# Altium footprint library resistors.pcblib: 14 footprints
Each footprint in its own frame and in the unit in brackets; x right, y up, seen from the top. Pads: shape width x height; smd on the part's side, far side on the other; paste and mask are expansions set on the pad; w line width, h text height; cw(c..) or ccw(c..) is an arc to the next point about the centre after c.
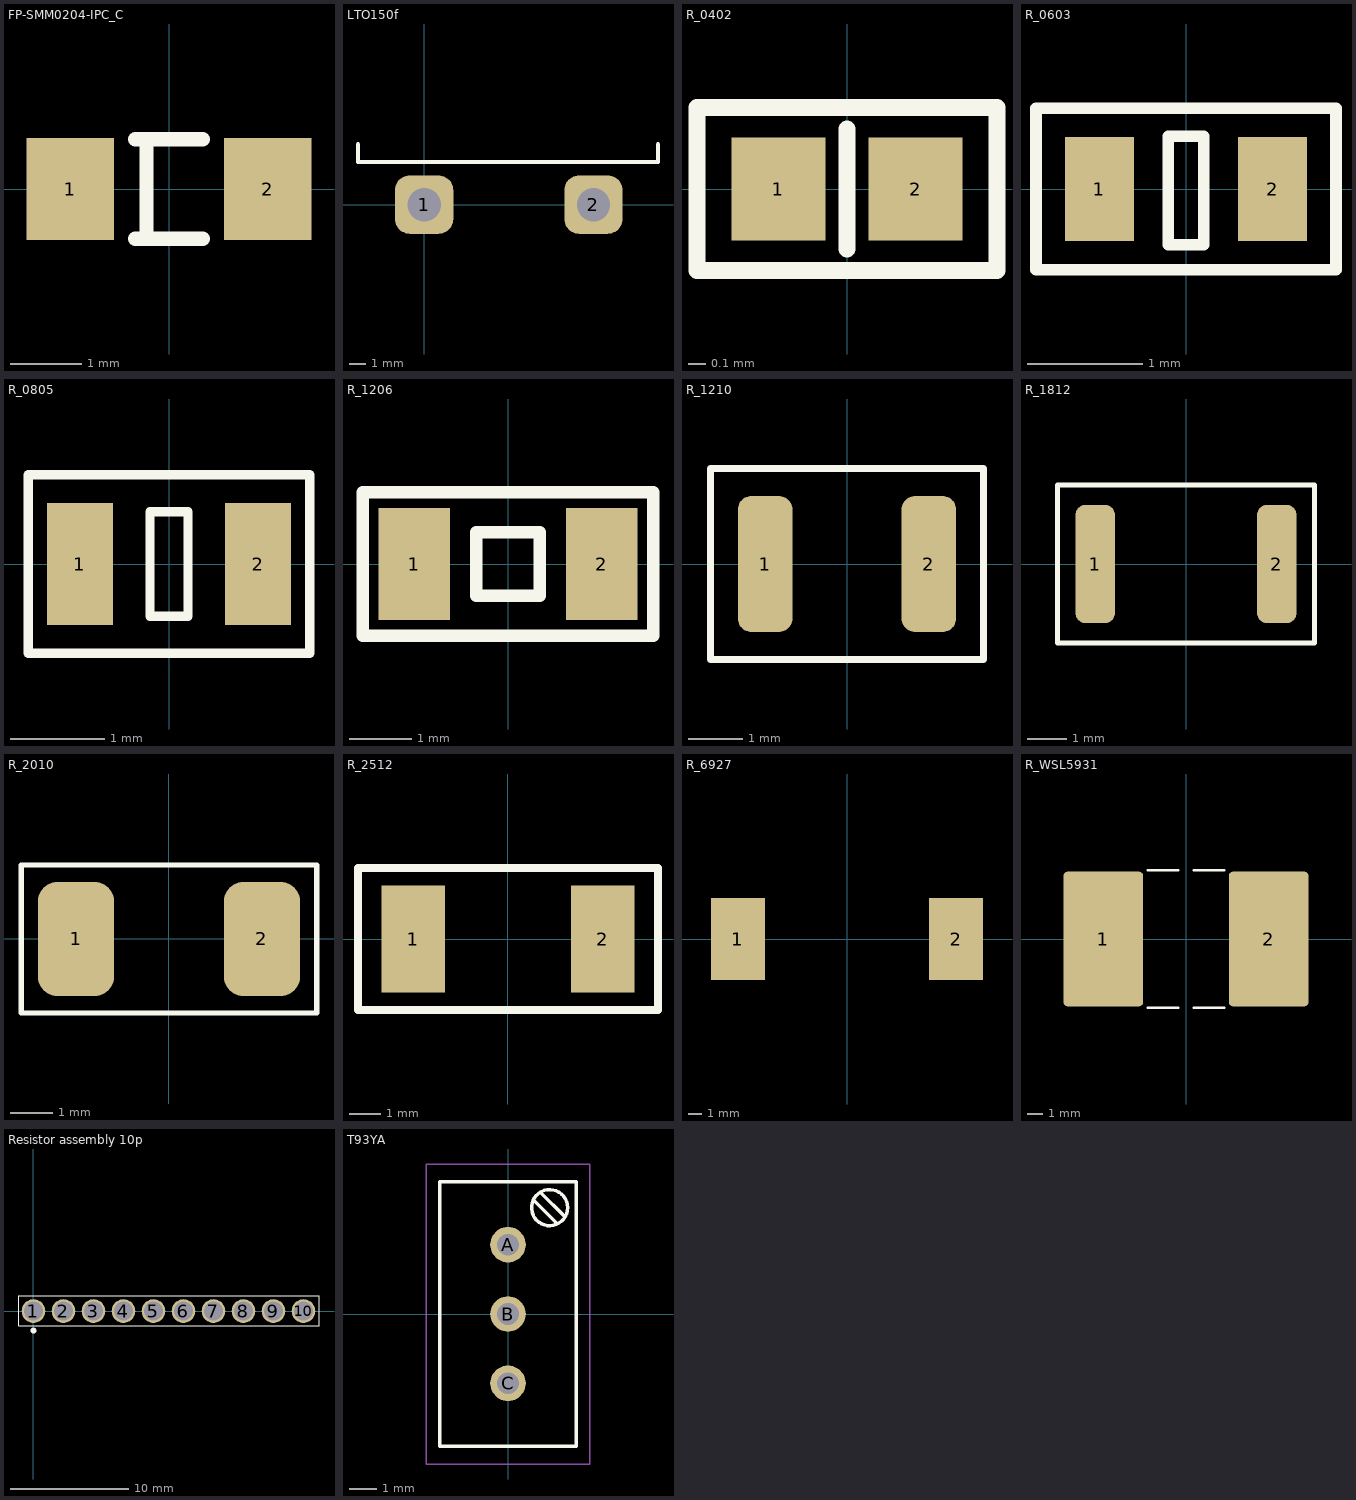
[diagram p0: the footprints below, top view; thin cyan lines are the x and y axes]

## FP-SMM0204-IPC_C [mm]
pads (2):
  rect 1.23x1.442 smd paste+0 mask+0: 1(-1.391,0) 2(1.391,0)
Top Overlay:
  lines w0.2: -0.476,-0.7 0.476,-0.7 ; -0.476,0.7 0.476,0.7 ; -0.318,-0.63 -0.318,0.63
3D body "Res_Vishay_SMM02040C1211FB300_eec.STEP": height 0.25, standoff 0, extent -2.106,-0.8 2.106,0.8

## LTO150f [mm]
pads (2):
  rrect50% 3.5x3.5 hole 2: 1(0,0) 2(10.16,0)
Top Overlay:
  lines w0.254: -3.966,3.621 -3.966,2.549 14.034,2.549 14.034,3.621
3D body "523393_10 LTO150.stp": height 28.72, standoff -3.18, extent -2.88,0 12.88,8

## R_0402 [mm]
pads (2):
  rect 0.55x0.6 smd: 1(-0.4,0) 2(0.4,0)
Top Overlay:
  lines w0.1: 0,-0.35 0,0.35 ; -0.875,-0.475 -0.875,0.475 0.875,0.475 0.875,-0.475 -0.875,-0.475
3D body "User Library-0402R.step": height 0.34, standoff 0, extent -0.52,-0.3 0.52,0.3

## R_0603 [mm]
height 0.508
pads (2):
  rect 0.6x0.9 smd: 1(-0.75,0) 2(0.75,0)
Top Overlay:
  lines w0.1: -1.3,-0.7 1.3,-0.7 1.3,0.7 -1.3,0.7 -1.3,-0.7 ; -0.152,-0.483 -0.152,0.457 0.152,0.457 0.152,-0.483 -0.152,-0.483
3D body "Res0603.step": height 0.45, standoff 0, extent -0.8,-0.41 0.8,0.41

## R_0805 [mm] "Resistor Pattern"
height 1.27
pads (2):
  rect 0.7x1.3 smd: 1(-0.95,0) 2(0.95,0)
Top Overlay:
  lines w0.1: -1.5,-0.95 1.5,-0.95 1.5,0.95 -1.5,0.95 -1.5,-0.95 ; -0.203,-0.559 0.203,-0.559 0.203,0.559 -0.203,0.559 -0.203,-0.559
3D body "User Library-Chip Resistor2.step": height 0.5, standoff 0, extent -1,-0.6 1,0.6

## R_1206 [mm]
height 1.524
pads (2):
  rect 1.15x1.8 smd: 1(-1.5,0) 2(1.5,0)
Top Overlay:
  lines w0.2: -2.325,-1.15 2.325,-1.15 2.325,1.15 -2.325,1.15 -2.325,-1.15 ; -0.508,-0.508 0.508,-0.508 0.508,0.508 -0.508,0.508 -0.508,-0.508
3D body "1206 SMD Resistor.step": height 1, standoff 0, extent -1.6,-0.8 1.6,0.8

## R_1210 [mm]
pads (2):
  rrect50% 1x2.5 smd: 1(-1.5,0) 2(1.5,0)
Top Overlay:
  lines w0.125: -2.5,-1.75 2.5,-1.75 2.5,1.75 -2.5,1.75 -2.5,-1.75
3D body "SMD R-1210.STEP": height 0.6, standoff 0, extent -1.6,-1.25 1.6,1.25

## R_1812 [mm]
pads (2):
  rrect50% 1x3 smd: 1(-2.3,0) 2(2.3,0)
Top Overlay:
  lines w0.125: -3.25,-2 -3.25,2 3.25,2 3.25,-2 -3.25,-2
3D body "SMD R-1812.STEP": height 0.6, standoff 0, extent -2.25,-1.6 2.25,1.6

## R_2010 [mm]
pads (2):
  rrect50% 1.8x2.7 smd: 1(-2.2,0) 2(2.2,0)
Top Overlay:
  lines w0.125: -3.5,-1.75 -3.5,1.75 3.5,1.75 3.5,-1.75 -3.5,-1.75
3D body "SMD R-2010.STEP": height 0.62, standoff 0, extent -2.502,-1.244 2.502,1.246

## R_2512 [mm]
pads (2):
  rect 2x3.4 smd: 1(-3,0) 2(3,0)
Top Overlay:
  lines w0.254: -4.75,-2.25 -4.75,2.25 4.75,2.25 4.75,-2.25 -4.75,-2.25
3D body "RESC6432X06.step": height 0.6, standoff 0, extent -3.2,-1.6 3.2,1.6

## R_6927 [mm]
pads (2):
  rect 3.94x5.97 smd: 1(-7.94,0) 2(7.94,0)
3D body "WSC6927.STEP": height 7.1, standoff -0.01, extent -8.765,-3.49 8.765,3.49

## R_WSL5931 [mm]
pads (2):
  rrect10% 5.2x8.8 smd: 1(-5.4,0) 2(5.4,0)
Top Overlay:
  lines w0.15: -2.5,-4.5 -0.5,-4.5 ; -2.5,4.5 -0.5,4.5 ; 0.5,-4.5 2.5,-4.5 ; 0.5,4.5 2.5,4.5
3D body "WSLP5931 (0.0002).step": height 1.73, standoff 0, extent -7.5,-3.875 7.5,3.875

## Resistor assembly 10p [mm] "RESISTOR NETWORK 10 pins"
pads (10):
  round 2 hole 1.6: 1(0,0) 2(2.54,0) 3(5.08,0) 4(7.62,0) 5(10.16,0) 6(12.7,0) 7(15.24,0) 8(17.78,0) 9(20.32,0) 10(22.86,0)
Top Overlay:
  circle w0.254: c0,-1.65 r0.125
  lines w0.1: -1.225,-1.25 24.175,-1.25 24.175,1.275 -1.225,1.275 -1.225,-1.25
3D body "A472J.STEP": height 5.09, standoff -3.79, extent -1.2,-1.22 24.15,1.27

## T93YA [mm]
pads (3):
  round 1.308 hole 0.8: A(0,2.54) B(0,0) C(0,-2.54)
Top Overlay:
  circle w0.127: c1.525,3.9 r0.662
  lines w0.127: 0.95,4.2 0.95,4.175 1.81,3.315 ; 2.076,3.574 1.2,4.45 ; 1.2,4.45 1.2,4.45 ; -2.5,-4.85 -2.5,4.85 2.5,4.85 2.5,-4.85 -2.5,-4.85
Board3D:
  lines w0.05: -3,-5.5 -3,5.5 3,5.5 3,-5.5 -3,-5.5
3D body "T93YA103KT20.STEP": height 11.11, standoff -4.99, extent -2.5,-4.85 2.5,4.85